# EAGLE library part SPARKFUN_BLUETOOTH-RN41 (library RN42__BoB)
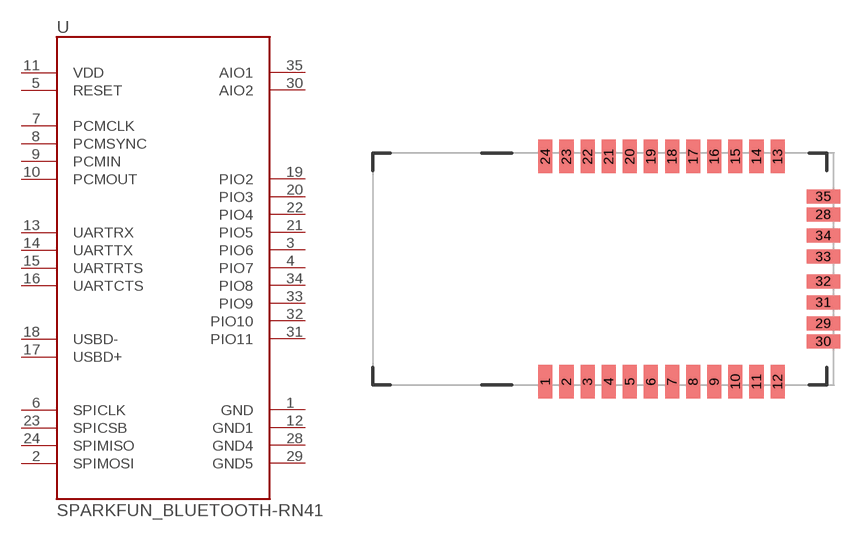
[diagram p0: symbol with the pads of SPARKFUN_RN41; footprint SPARKFUN_RN41]

Designator prefix -

## SPARKFUN_BLUETOOTH-RN41"  [SPARKFUN_RN41]
1  GND
2  SPIMOSI
3  PIO6
4  PIO7
5  RESET
6  SPICLK
7  PCMCLK
8  PCMSYNC
9  PCMIN
10  PCMOUT
11  VDD
12  GND1
13  UARTRX
14  UARTTX
15  UARTRTS
16  UARTCTS
17  USBD+
18  USBD-
19  PIO2
20  PIO3
21  PIO5
22  PIO4
23  SPICSB
24  SPIMISO
28  GND4
29  GND5
30  AIO2
31  PIO11
32  PIO10
33  PIO9
34  PIO8
35  AIO1

## Footprint SPARKFUN_RN41 (pad centres in mm)
smd 0.8 x 1.9: 1 -6.6,-6.4; 2 -5.4,-6.4; 3 -4.2,-6.4; 4 -3,-6.4; 5 -1.8,-6.4; 6 -0.6,-6.4; 7 0.6,-6.4; 8 1.8,-6.4; 9 3,-6.4; 10 4.2,-6.4; 11 5.4,-6.4; 12 6.6,-6.4; 13 6.6,6.4; 14 5.4,6.4; 15 4.2,6.4; 16 3,6.4; 17 1.8,6.4; 18 0.6,6.4; 19 -0.6,6.4; 20 -1.8,6.4; 21 -3,6.4; 22 -4.2,6.4; 23 -5.4,6.4; 24 -6.6,6.4
smd 1.9 x 0.8: 28 9.2,3.1; 29 9.2,-3.1; 30 9.2,-4.122; 31 9.2,-1.9; 32 9.2,-0.7; 33 9.2,0.7; 34 9.2,1.9; 35 9.2,4.122